# Altium schematic symbol library B340LA-13-F.SchLib: 1 symbol
Pins are listed as number, name and electrical type; pins without a type are passive.

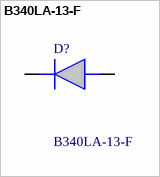
[diagram p0: symbol B340LA-13-F]

## B340LA-13-F
designator D?
Diodes Inc B340LA-13-F, SMT Schottky Diode, 40V 3A, 2-Pin DO-214AC; Manufacturer_Name: Diodes Incorporated; Geometry.Height: 2.4mm; Mouser Part Number: 621-B340LA-F; Mouser Price/Stock: https://www.mouser.co.uk/ProductDetail/Diodes-Incorporated/B340LA-13-F?qs=dU8xVB810ithG3OzkYQiSg%3D%3D; Manufacturer_Part_Number: B340LA-13-F; Datasheet Link: *
footprint DIOM5226X240N
pins: 1 K, 2 A